# Altium footprint library PCB_Oxi_VT0.1-991023.PcbLib: 22 footprints (part 1 of 2)
Each footprint in its own frame and in the unit in brackets; x right, y up, seen from the top. Pads: shape width x height; smd on the part's side, far side on the other; paste and mask are expansions set on the pad; w line width, h text height; cw(c..) or ccw(c..) is an arc to the next point about the centre after c.
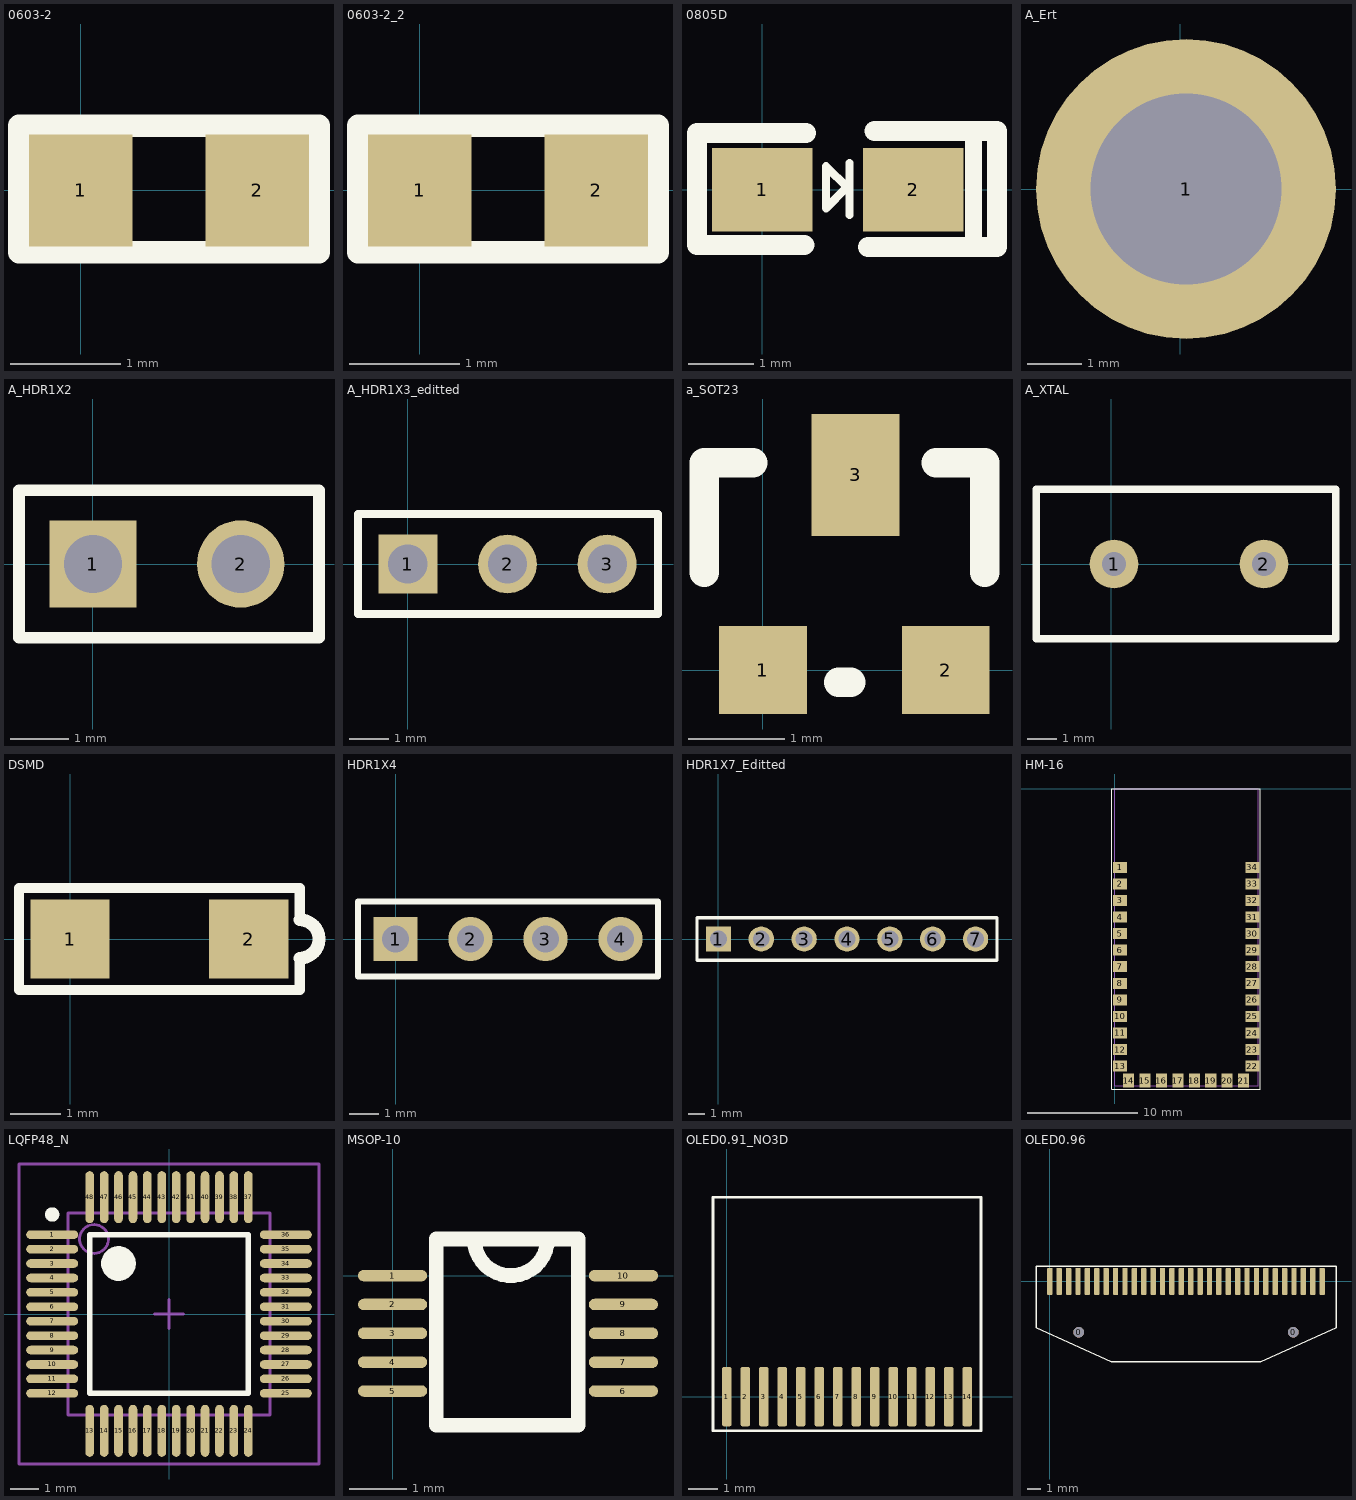
[diagram p0: the footprints below, top view; thin cyan lines are the x and y axes]

## 0603-2 [mil]
height 55.12
pads (2):
  rect 37x40 smd: 1(0,0) 2(63,0)
Top Overlay:
  lines w8: -22,-22 -22,23 85,23 85,-22 -22,-22
3D body "RES0603.stp": height 17.72, standoff 0, extent 0.51,-15.75 63.5,15.76

## 0603-2_2 [mil]
pads (2):
  rect 37x40 smd: 1(0,0) 2(63,0)
Top Overlay:
  lines w8: -22,-22 -22,23 85,23 85,-22 -22,-22
3D body "RES0603.stp": height 17.72, standoff 0, extent 0.51,-15.75 63.5,15.76

## 0805D [mil]
pads (2):
  rect 60x50 smd: 1(0,0) 2(90,0)
Top Overlay:
  lines w5: 50,1 38,-11 38,14 51,1 ; 52,-15 52,16
  lines w10: 126,-35 126,36
  lines w12: -39,-33 -39,34 26,34 ; -37,-33 25,-33 ; 63,-34 138,-34 ; 67,35 140,35 140,-34
3D body "Surface Mount Chip LED 3.2x1.6mm.stp": height 43.31, standoff -0.39, extent -14.99,-32 110.99,30.99

## A_Ert [mm]
pads (1):
  round 5.5 hole 3.5: 1(0.102,0)

## A_HDR1X2 [mm] "Connector; Header; 4 Position"
height 1.6
pads (2):
  rect 1.5x1.5 hole 1: 1(0,0)
  round 1.5 hole 1: 2(2.54,0)
Top Overlay:
  lines w0.2: -1.27,-1.27 3.886,-1.27 3.886,1.27 -1.27,1.27 -1.27,-1.27
3D body "pcb_connector_353-10-102-00-001101.stp": height 18.51, standoff -3.85, extent -1.321,-1.295 3.759,1.245

## A_HDR1X3_editted [mm] "Connector; Header; 4 Position"
height 1.6
pads (3):
  rect 1.5x1.5 hole 1: 1(0,0)
  round 1.5 hole 1: 2(2.54,0) 3(5.08,0)
Top Overlay:
  lines w0.2: -1.27,-1.27 -1.27,1.27 6.375,1.27 6.375,-1.27 -1.27,-1.27
3D body "Pin Header 1x3 TH Pitch 2.54mm.stp": height 9.6, standoff -3.1, extent -1.194,-1.346 6.426,1.194

## a_SOT23 [mil]
pads (3):
  rect 36x36 smd: 1(0,0) 2(75,0)
  rect 36x50 smd: 3(38,80)
Top Overlay:
  lines w12: -24,40 -24,85 -4,85 ; 31,-5 36,-5 ; 71,85 91,85 91,40
3D body "SOT-23.stp": height 39.37, standoff 0, extent -23.05,-4 95.06,96.39

## A_XTAL [mil]
pads (2):
  round 65 hole 31.5: 1(4,0) 2(204,0)
Top Overlay:
  lines w10: -100,-100 -100,-60 -100,60 -100,100 300,100 300,-100 -100,-100
3D body "Crystal.stp": height 140.87, standoff -70.87, extent -123.43,-89.07 323.43,94

## DSMD [mil]
height 96.06
pads (2):
  rect 62x62 smd: 1(0,0) 2(140,0)
Top Overlay:
  lines w8: 180,-15 180,-40 -40,-40 -40,40 180,40 180,15
  lines w10: 180,-15 ccw(c180,0) 180,15
3D body "SW3dPS-SOD80.STEP": height 63.22, standoff 0.23, extent 3.33,-26.99 149,36

## HDR1X4 [mm] "Connector; Header; 4 Position"
pads (4):
  rect 1.5x1.5 hole 0.9: 1(0,0)
  round 1.5 hole 0.9: 2(2.54,0) 3(5.08,0) 4(7.62,0)
Top Overlay:
  lines w0.2: -1.27,-1.27 -1.27,1.27 8.89,1.27 8.89,-1.27 -1.27,-1.27

## HDR1X7_Editted [mm] "Connector; Header; 7 Position"
pads (7):
  rect 1.5x1.5 hole 1: 1(0,0)
  round 1.5 hole 1: 2(2.54,0) 3(5.08,0) 4(7.62,0) 5(10.16,0) 6(12.7,0) 7(15.24,0)
Top Overlay:
  lines w0.2: -1.27,-1.27 -1.27,1.27 16.51,1.27 16.51,-1.27 -1.27,-1.27
3D body "pin_header_aw140-eg-g07d.stp": height 8.3, standoff -2.9, extent -1.372,-1.168 16.408,1.33

## HM-16 [mm]
pads (34):
  rect 1.25x1 smd: 1(0.508,-7.1) 2(0.508,-8.6) 3(0.508,-10.1) 4(0.508,-11.6) 5(0.508,-13.1) 6(0.508,-14.6) 7(0.508,-16.1) 8(0.508,-17.6) 9(0.508,-19.1) 10(0.508,-20.6) 11(0.508,-22.1) 12(0.508,-23.6) 13(0.508,-25.1) 22(12.492,-25.1) 23(12.492,-23.6) 24(12.492,-22.11) 25(12.492,-20.6) 26(12.492,-19.1) 27(12.492,-17.6) 28(12.492,-16.1) 29(12.492,-14.6) 30(12.492,-13.1) 31(12.492,-11.6) 32(12.492,-10.1) 33(12.492,-8.6) 34(12.492,-7.1)
  rect 1x1.25 smd: 14(1.27,-26.416) 15(2.76,-26.416) 16(4.25,-26.416) 17(5.74,-26.416) 18(7.23,-26.416) 19(8.72,-26.416) 20(10.21,-26.416) 21(11.7,-26.416)
Top Overlay:
  lines w0.1: -0.254,-27.178 -0.254,0 13.208,0 13.208,-27.178 -0.254,-27.178
Mechanical 13:
  lines w0.1: 0,-26.9 0,0 13,0 13,-26.9 0,-26.9

## LQFP48_N [mm]
height 1
pads (48):
  oval 1.8x0.3 smd: 1(-4.05,2.75) 2(-4.05,2.25) 3(-4.05,1.75) 4(-4.05,1.25) 5(-4.05,0.75) 6(-4.05,0.25) 7(-4.05,-0.25) 8(-4.05,-0.75) 9(-4.05,-1.25) 10(-4.05,-1.75) 11(-4.05,-2.25) 12(-4.05,-2.75) 25(4.05,-2.75) 26(4.05,-2.25) 27(4.05,-1.75) 28(4.05,-1.25) 29(4.05,-0.75) 30(4.05,-0.25) 31(4.05,0.25) 32(4.05,0.75) 33(4.05,1.25) 34(4.05,1.75) 35(4.05,2.25) 36(4.05,2.75)
  oval 0.3x1.8 smd: 13(-2.75,-4.05) 14(-2.25,-4.05) 15(-1.75,-4.05) 16(-1.25,-4.05) 17(-0.75,-4.05) 18(-0.25,-4.05) 19(0.25,-4.05) 20(0.75,-4.05) 21(1.25,-4.05) 22(1.75,-4.05) 23(2.25,-4.05) 24(2.75,-4.05) 37(2.75,4.05) 38(2.25,4.05) 39(1.75,4.05) 40(1.25,4.05) 41(0.75,4.05) 42(0.25,4.05) 43(-0.25,4.05) 44(-0.75,4.05) 45(-1.25,4.05) 46(-1.75,4.05) 47(-2.25,4.05) 48(-2.75,4.05)
Top Overlay:
  circle w0.25: c-4.05,3.45 r0.125
  circle w0.6: c-1.75,1.75 r0.3
  lines w0.2: -2.75,-2.75 -2.75,2.75 2.75,2.75 2.75,-2.75 -2.75,-2.75
Mechanical 13:
  circle w0.1: c-2.6,2.6 r0.5
  lines w0.1: -3.5,-3.5 -3.5,3.5 3.5,3.5 3.5,-3.5 -3.5,-3.5
Mechanical 15:
  lines w0.1: -0.5,0 0.5,0 ; 0,-0.5 0,0.5 ; -5.2,-5.2 -5.2,5.2 5.2,5.2 5.2,-5.2 -5.2,-5.2

## MSOP-10 [mm]
pads (10):
  oval 1.2x0.2 smd: 1(0,0) 2(0,-0.5) 3(0,-1) 4(0,-1.5) 5(0,-2) 6(4,-2) 7(4,-1.5) 8(4,-1) 9(4,-0.5) 10(4,0)
Top Overlay:
  lines w0.254: 1.414,0.635 ccw(c2.049,0.635) 2.684,0.635 ; 0.754,-2.591 0.754,0.635 3.218,0.635 3.218,-2.591 0.754,-2.591

## OLED0.91_NO3D [mm]
pads (14):
  rrect50% 0.32x2 smd: 1(0,0) 2(0.62,0) 3(1.24,0) 4(1.86,0) 5(2.48,0) 6(3.1,0) 7(3.72,0) 8(4.34,0) 9(4.96,0) 10(5.58,0) 11(6.2,0) 12(6.82,0) 13(7.44,0) 14(8.06,0)
Top Overlay:
  lines w0.1: -0.47,-1.143 -0.47,6.687 8.53,6.687 8.53,-1.143 -0.47,-1.143

## OLED0.96 [mm]
pads (32):
  round 0.8 hole 0.8 unplated: 0(2.15,-3.79) 0(18.15,-3.79)
  rrect30% 0.4x2 smd: 1(20.3,0) 2(19.6,0) 3(18.9,0) 4(18.2,0) 5(17.5,0) 6(16.8,0) 7(16.1,0) 8(15.4,0) 9(14.7,0) 10(14,0) 11(13.3,0) 12(12.6,0) 13(11.9,0) 14(11.2,0) 15(10.5,0) 16(9.8,0) 17(9.1,0) 18(8.4,0) 19(7.7,0) 20(7,0) 21(6.3,0) 22(5.6,0) 23(4.9,0) 24(4.2,0) 25(3.5,0) 26(2.8,0) 27(2.1,0) 28(1.4,0) 29(0.7,0) 30(0,0)
Top Overlay:
  lines w0.1: -1.03,-3.44 4.575,-6 15.725,-6 21.33,-3.44 21.33,1.143 -1.03,1.143 -1.03,-3.44
3D body "0.96 OLED - Flat Reverse.stp": height 0.21, standoff -2.95, extent -2.692,-6.734 23.013,15.672